# Altium footprint library Bourns_Library.PcbLib: 4 footprints
Each footprint in its own frame and in the unit in brackets; x right, y up, seen from the top. Pads: shape width x height; smd on the part's side, far side on the other; paste and mask are expansions set on the pad; w line width, h text height; cw(c..) or ccw(c..) is an arc to the next point about the centre after c.
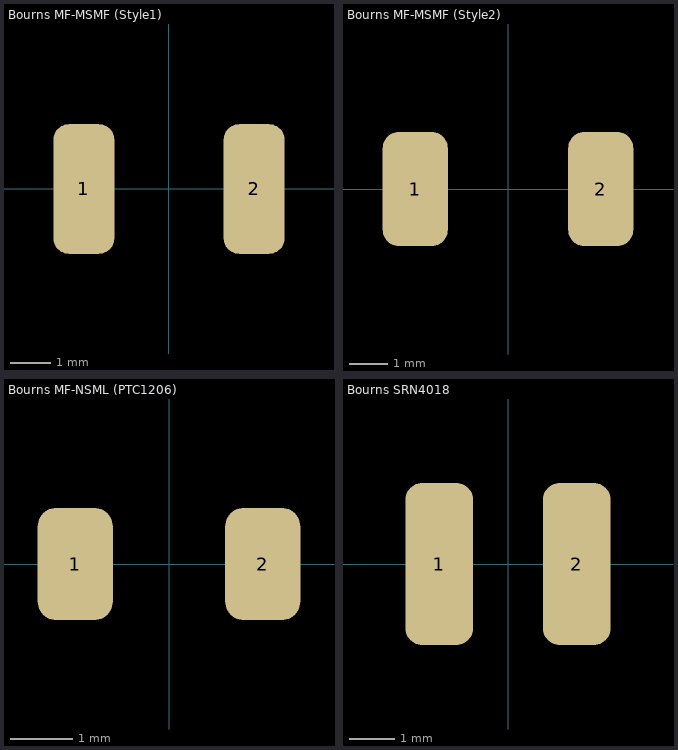
[diagram p0: the footprints below, top view; thin cyan lines are the x and y axes]

## Bourns MF-MSMF (Style1) [mm] "Bourns MF-MSMF"
pads (2):
  rrect50% 1.5x3.2 smd: 1(-2.1,0) 2(2.1,0)
3D body "MF-MSMF200.x_t": height 0.71, standoff 0, extent -2.275,-1.62 2.275,1.62

## Bourns MF-MSMF (Style2) [mm] "Bourns MF-MSMF"
pads (2):
  rrect50% 1.68x2.95 smd: 1(-2.39,0) 2(2.39,0)
3D body "MF-MSMF200.x_t": height 0.71, standoff 0, extent -2.275,-1.62 2.275,1.62

## Bourns MF-NSML (PTC1206) [mm] "IPC Medium Density"
height 0.6
pads (2):
  rrect50% 1.2x1.8 smd: 1(-1.5,0) 2(1.5,0)
3D body "MF-NSML300.x_t": height 0.6, standoff 0, extent -1.75,-0.9 1.75,0.9

## Bourns SRN4018 [mm] "Bourns SRN4018"
pads (2):
  rrect50% 1.5x3.6 smd: 1(-1.525,0) 2(1.525,0)
3D body "SRN4018-4R7M.x_t": height 1.8, standoff 0, extent -2.2,-2 2.2,2